# Altium footprint library TI MSOP-10 DGQ.PCBLIB: 1 footprints
Each footprint in its own frame and in the unit in brackets; x right, y up, seen from the top. Pads: shape width x height; smd on the part's side, far side on the other; paste and mask are expansions set on the pad; w line width, h text height; cw(c..) or ccw(c..) is an arc to the next point about the centre after c.
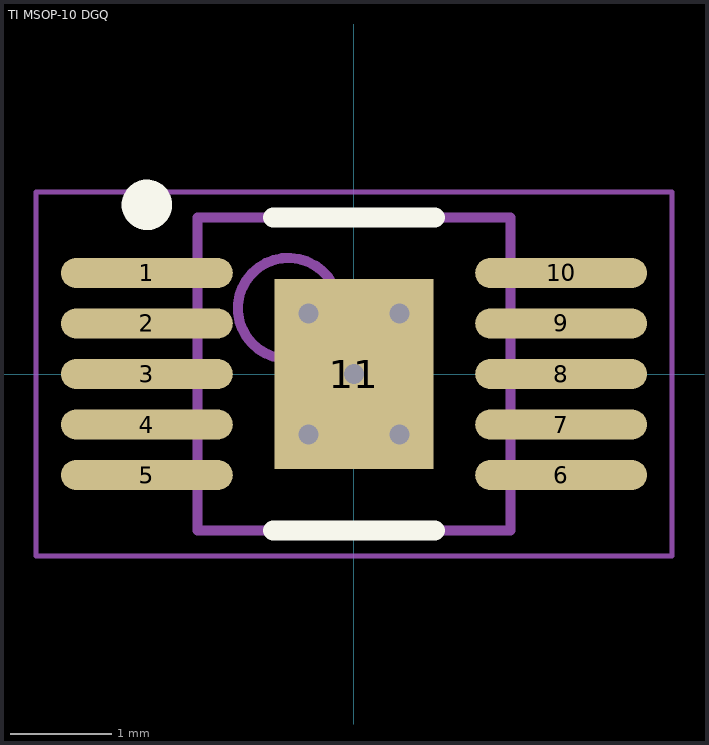
[diagram p0: the footprint, top view; thin cyan lines are the x and y axes]

## TI MSOP-10 DGQ [mm] "TSSOP, 10-Leads, Body 3x3mm, Pitch 0.5mm, Thermal Pad 1.88x1.57mm, IPC Medium Density"
height 1.1
pads (11):
  oval 1.7x0.3 smd: 1(-2.05,1) 2(-2.05,0.5) 3(-2.05,0) 4(-2.05,-0.5) 5(-2.05,-1) 6(2.05,-1) 7(2.05,-0.5) 8(2.05,0) 9(2.05,0.5) 10(2.05,1)
  rect 1.57x1.88 smd: 11(0,0)
via -0.45,0.6 diameter 0.5 hole 0.2
via -0.45,-0.6 diameter 0.5 hole 0.2
via 0.45,-0.6 diameter 0.5 hole 0.2
via 0.45,0.6 diameter 0.5 hole 0.2
via 0,0 diameter 0.5 hole 0.2
Top Overlay:
  circle w0.25: c-2.05,1.675 r0.125
  lines w0.2: -0.8,-1.55 0.8,-1.55 ; -0.8,1.55 0.8,1.55
Mechanical 13:
  circle w0.1: c-0.65,0.65 r0.5
  lines w0.1: -1.55,-1.55 1.55,-1.55 1.55,1.55 -1.55,1.55 -1.55,-1.55
Mechanical 15:
  lines w0.05: -3.15,-1.8 3.15,-1.8 3.15,1.8 -3.15,1.8 -3.15,-1.8
  lines w0.1: -0.5,0 0.5,0 ; 0,-0.5 0,0.5
3D body "MSOP-10.STEP": height 1.2, standoff 0, extent -2.46,-1.5 2.461,1.5